# Altium schematic symbol library passive.SchLib: 13 symbols
Pins are listed as number, name and electrical type; pins without a type are passive.

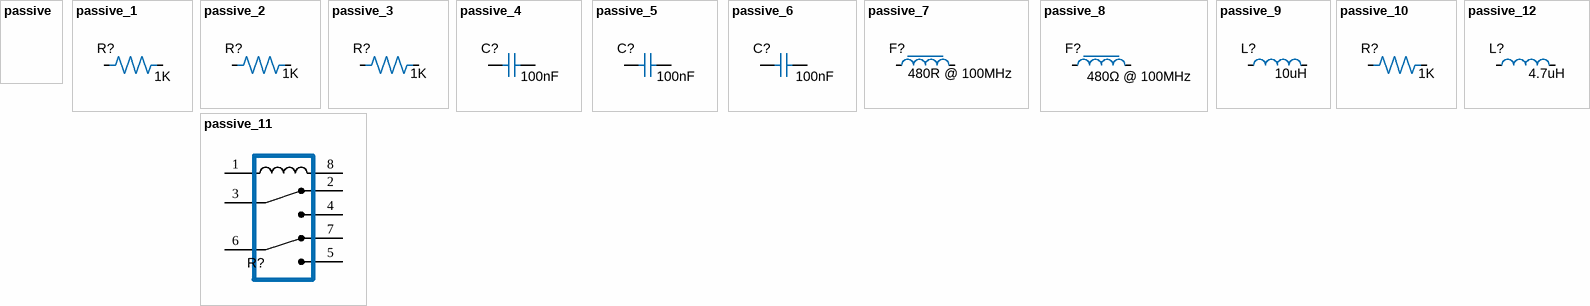
[diagram p0: symbols passive to passive_12]

## passive
designator ?
Template

## passive_1
designator R?  value 1K
Resistor 0402
footprint resistor 0402
pins: 1, 2

## passive_2
designator R?  value 1K
Resistor 0603
footprint resistor 0603
pins: 1, 2

## passive_3
designator R?  value 1K
Resistor 0805
footprint resistor 0805
pins: 1, 2

## passive_4
designator C?  value 100nF
Capacitor 0402
footprint capacitor 0402
pins: 1, 2

## passive_5
designator C?  value 100nF
Capacitor 0603
footprint capacitor 0603
pins: 1, 2

## passive_6
designator C?  value 100nF
Capacitor 0805
footprint capacitor 0805
pins: 1, 2

## passive_7
designator F?  value 480R @ 100MHz
Ferrite bead 0402
footprint ferrit bead 0402
pins: 1, 2

## passive_8
designator F?  value 480Ω @ 100MHz
Ferrite bead 0603
footprint ferrit bead 0603
pins: 1, 2

## passive_9
designator L?  value 10uH
Inductor 0603
footprint inductor 0603
pins: 1, 2

## passive_10
designator R?  value 1K
Resistor 2512
footprint resistor 2512
pins: 1, 2

## passive_11
designator R?
Relay, 2 channels, 2A, 3V coil; Manufacturer 1: Panasonic Electric Works; Manufacturer Part Number 1: AGQ200S03Z; Supplier 1: Digi-Key; Supplier Part Number 1: 255-1361-1-ND; Link: https://www.digikey.no/product-detail/en/panasonic-electric-works/AGQ200S03Z/255-1361-1-ND/5957490
footprint AGQ200S03Z
pins: 1, 2, 3, 4, 5, 6, 7, 8

## passive_12
designator L?  value 4.7uH
Inductor, 4.7uH, 4x4mm; Manufacturer 1: TDK Corporation; Manufacturer Part Number 1: VLS4012HBX-4R7M; Supplier 1: Digi-Key; Supplier Part Number 1: 445-180918-2-ND
footprint VLS4012HBX-4R7M